# EAGLE library part ADF7021-V2 (library rfops)
ADF7021-V Transceiver from Analog Devices
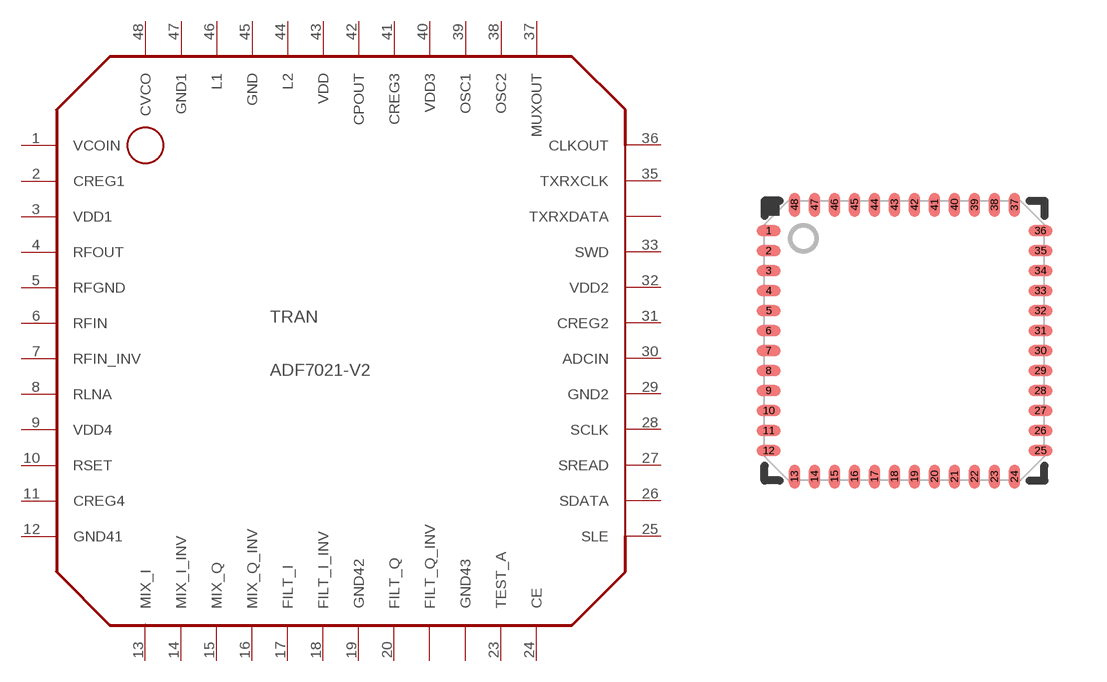
[diagram p13: symbol with the pads of LFCSP-48; footprint LFCSP-48]

Designator prefix TRAN

## ADF7021-V2  [LFCSP-48]
1  VCOIN  nc
2  CREG1  out
3  VDD1  pwr
4  RFOUT  out
5  RFGND  pwr
6  RFIN  in
7  RFIN_INV  in
8  RLNA  pas
9  VDD4  pwr
10  RSET  in
11  CREG4  out
12  GND41  pwr
13  MIX_I  nc
14  MIX_I_INV  nc
15  MIX_Q  nc
16  MIX_Q_INV  nc
17  FILT_I  nc
18  FILT_I_INV  nc
19  GND42  pwr
20  FILT_Q  nc
21  FILT_Q_INV
22  GND43
23  TEST_A  nc
24  CE  in
25  SLE  in
26  SDATA  in
27  SREAD  out
28  SCLK  in
29  GND2  pwr
30  ADCIN  in
31  CREG2  out
32  VDD2  pwr
33  SWD  out
34  TXRXDATA
35  TXRXCLK  out
36  CLKOUT  out
37  MUXOUT  out
38  OSC2  in
39  OSC1  in
40  VDD3  pwr
41  CREG3  out
42  CPOUT  out
43  VDD  pwr
44  L2  in
45  GND  pwr
46  L1  nc
47  GND1  pwr
48  CVCO  nc

## Footprint LFCSP-48 (pad centres in mm)
Analog devices LFCSP-48 package
smd 0.6 x 0.28: 1 -3.4,2.75; 2 -3.4,2.25; 3 -3.4,1.75; 4 -3.4,1.25; 5 -3.4,0.75; 6 -3.4,0.25; 7 -3.4,-0.25; 8 -3.4,-0.75; 9 -3.4,-1.25; 10 -3.4,-1.75; 11 -3.4,-2.25; 12 -3.4,-2.75; 25 3.4,-2.75; 26 3.4,-2.25; 27 3.399,-1.75; 28 3.399,-1.25; 29 3.399,-0.75; 30 3.399,-0.25; 31 3.399,0.25; 32 3.399,0.75; 33 3.399,1.25; 34 3.399,1.75; 35 3.399,2.25; 36 3.399,2.75
smd 0.28 x 0.6: 13 -2.75,-3.4; 14 -2.25,-3.4; 15 -1.75,-3.4; 16 -1.25,-3.4; 17 -0.75,-3.4; 18 -0.25,-3.4; 19 0.25,-3.4; 20 0.75,-3.4; 21 1.25,-3.4; 22 1.75,-3.4; 23 2.25,-3.4; 24 2.75,-3.4; 37 2.75,3.4; 38 2.25,3.4; 39 1.75,3.4; 40 1.25,3.4; 41 0.75,3.4; 42 0.25,3.4; 43 -0.25,3.4; 44 -0.75,3.4; 45 -1.25,3.4; 46 -1.75,3.4; 47 -2.25,3.4; 48 -2.75,3.4